# Altium schematic symbol library DirtyLib.SchLib: 3 symbols
Pins are listed as number, name and electrical type; pins without a type are passive.

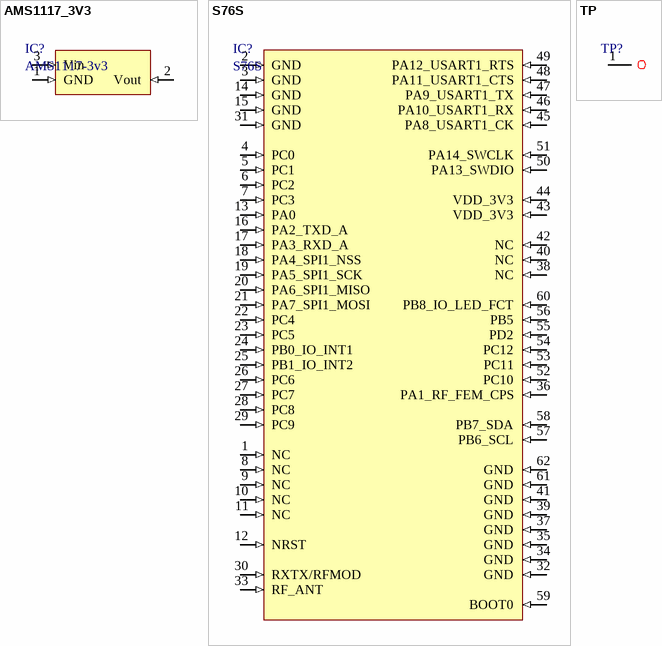
[diagram p0: symbols AMS1117_3V3 to TP]

## AMS1117_3V3
designator IC?, comment AMS1117-3v3
AMS1117 5v to 3.3v
footprint SOT223
pins: 1 GND (in), 2 Vout (in), 3 Vin (in)

## S76S
designator IC?
LoRa S76S
footprint S76S (ACSIP S76S Footprint)
pins: 1 NC (in), 2 GND (in), 3 GND (in), 4 PC0 (in), 5 PC1 (in), 6 PC2 (in), 7 PC3 (in), 8 NC (in), 9 NC (in), 10 NC (in), 11 NC (in), 12 NRST (in), 13 PA0 (in), 14 GND (in), 15 GND (in), 16 PA2_TXD_A (in), 17 PA3_RXD_A (in), 18 PA4_SPI1_NSS (in), 19 PA5_SPI1_SCK (in), 20 PA6_SPI1_MISO (in), 21 PA7_SPI1_MOSI (in), 22 PC4 (in), 23 PC5 (in), 24 PB0_IO_INT1 (in), 25 PB1_IO_INT2 (in), 26 PC6 (in), 27 PC7 (in), 28 PC8 (in), 29 PC9 (in), 30 RXTX/RFMOD (in), 31 GND (in), 32 GND (in), 33 RF_ANT (in), 34 GND (in), 35 GND (in), 36 PA1_RF_FEM_CPS (in), 37 GND (in), 38 NC (in), 39 GND (in), 40 NC (in), 41 GND (in), 42 NC (in), 43 VDD_3V3 (in), 44 VDD_3V3 (in), 45 PA8_USART1_CK (in), 46 PA10_USART1_RX (in), 47 PA9_USART1_TX (in), 48 PA11_USART1_CTS (in), 49 PA12_USART1_RTS (in), 50 PA13_SWDIO (in), 51 PA14_SWCLK (in), 52 PC10 (in), 53 PC11 (in), 54 PC12 (in), 55 PD2 (in), 56 PB5 (in), 57 PB6_SCL (in), 58 PB7_SDA (in), 59 BOOT0 (in), 60 PB8_IO_LED_FCT (in), 61 GND (in), 62 GND (in)

## TP
designator TP?
Test Point
footprint TestPoint
pins: 1